# Altium schematic symbol library Troposphere_lib.SchLib: 34 symbols
Pins are listed as number, name and electrical type; pins without a type are passive.

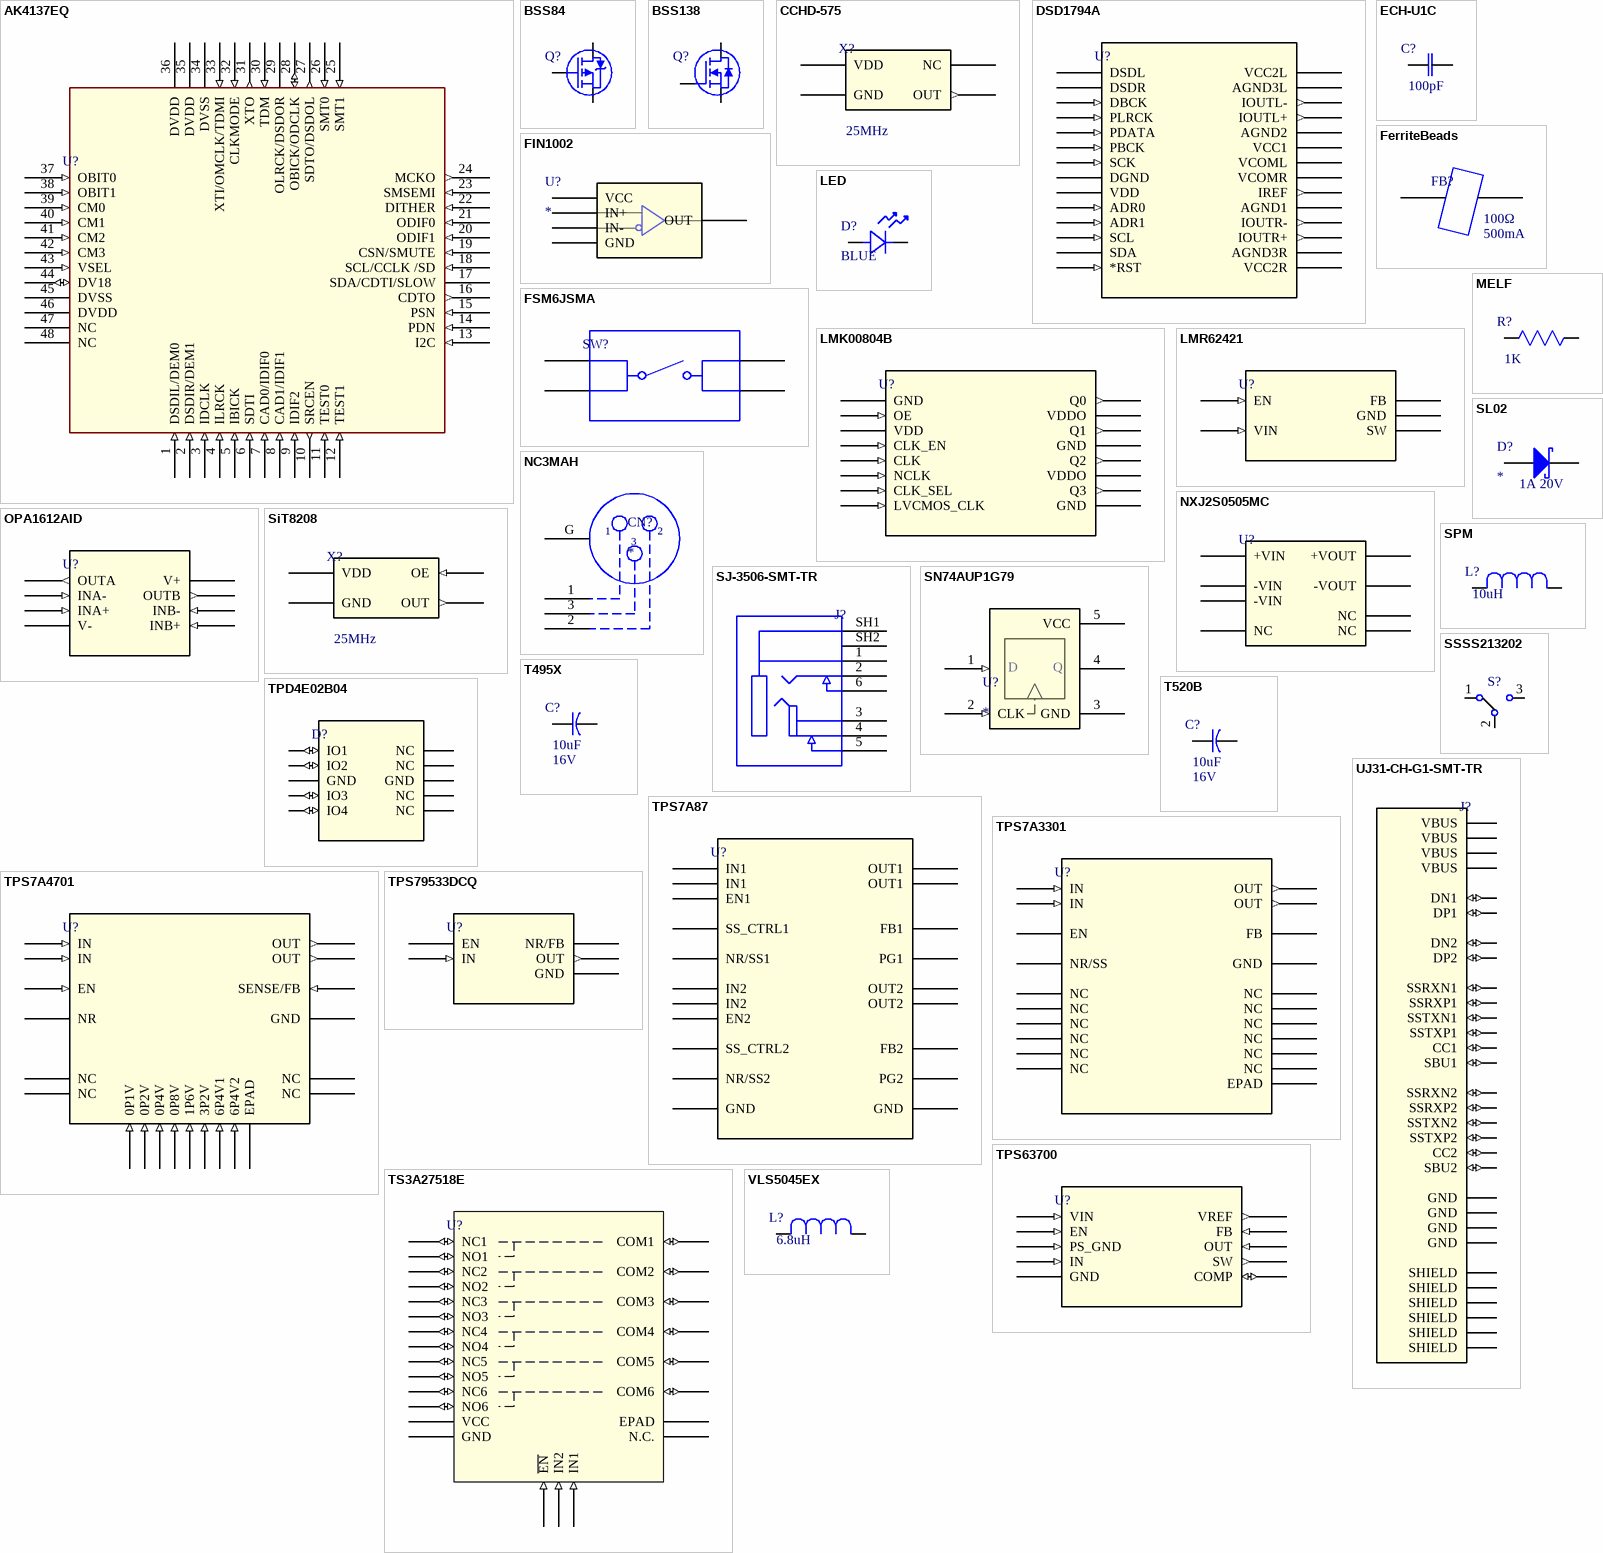
[diagram p0: symbols AK4137EQ to VLS5045EX]

## AK4137EQ
designator U?  (value not drawn)
32bit SRC with PCM/DSD conversion
footprint LQFP48
pins: 1 DSDIL/DEM0 (in), 2 DSDIR/DEM1 (in), 3 IDCLK (in), 4 ILRCK (in), 5 IBICK (in), 6 SDTI (in), 7 CAD0/IDIF0 (in), 8 CAD1/IDIF1 (in), 9 IDIF2 (in), 10 SRCEN (out), 11 TEST0 (in), 12 TEST1 (in), 13 I2C (in), 14 PDN (in), 15 PSN (in), 16 CDTO (out), 17 SDA/CDTI/SLOW, 18 SCL/CCLK /SD (in), 19 CSN/SMUTE (in), 20 ODIF1 (in), 21 ODIF0 (in), 22 DITHER (in), 23 SMSEMI (in), 24 MCKO (out), 25 SMT1 (in), 26 SMT0 (in), 27 SDTO/DSDOL (out), 28 OBICK/ODCLK (io), 29 OLRCK/DSDOR, 30 TDM (in), 31 XTO (out), 32 CLKMODE (in), 33 XTI/OMCLK/TDMI (in), 34 DVSS (power), 35 DVDD (power), 36 DVDD (power), 37 OBIT0 (in), 38 OBIT1 (in), 39 CM0 (in), 40 CM1 (in), 41 CM2 (in), 42 CM3 (in), 43 VSEL (in), 44 DV18 (io), 45 DVSS (power), 46 DVDD (power), 47 NC (power), 48 NC (power)

## BSS84
designator Q?, comment MOSFET  (value not drawn)
MOSFET, P-Channel, Logic Level, 50V, 130mA, SOT23
footprint SOT-23
pins: 1 G, 2 S, 3 D

## BSS138
designator Q?  (value not drawn)
MOSFET, N-Channel, Logic Level, 50V, 220mA, SOT23
footprint SOT-23
pins: 1 G, 2 S, 3 D

## CCHD-575
designator X?  Frequency: 25MHz  (hidden comment: *)
Ultra-Low Phase Noise Oscillator
footprint 7550
pins: 1 NC, 2 GND (power), 3 OUT (out), 4 VDD (power)

## DSD1794A
designator U?  (value not drawn)
24-Bit 192-kHz Sampling Advanced Segment Audio Stereo DAC
footprint DB28
pins: 1 DSDL, 2 DSDR, 3 DBCK (in), 4 PLRCK (in), 5 PDATA (in), 6 PBCK (in), 7 SCK (in), 8 DGND (power), 9 VDD (power), 10 ADR0 (in), 11 ADR1 (in), 12 SCL (in), 13 SDA, 14 *RST (in), 15 VCC2R (power), 16 AGND3R (power), 17 IOUTR+ (out), 18 IOUTR- (out), 19 AGND1 (power), 20 IREF (out), 21 VCOMR (power), 22 VCOML (power), 23 VCC1 (power), 24 AGND2 (power), 25 IOUTL+ (out), 26 IOUTL- (out), 27 AGND3L (power), 28 VCC2L (power)

## ECH-U1C
designator C?  value 100pF  (hidden comment: *)
Metallized Plastic Film Capacitor
footprint C0603
footprint C0805
pins: 1, 2

## FerriteBeads
designator FB?  RatedCurrent: 500mA  Impedance(100MHz): 100Ω  (hidden comment: *)
Chip Ferrite Beads; DCResistance: 1Ω
footprint 0603
footprint 0603-L
footprint 0603-M
footprint 0805
footprint 0805-M
footprint 0805-L
pins: 1 (power), 2 (power)

## FIN1002
designator U?
LVDS 1-Bit High Speed Differential Receiver
footprint DBV5
footprint DBV5-L
footprint DBV5-M
pins: 1 VCC (power), 2 GND (power), 3 IN+ (power), 4 IN- (power), 5 OUT (power)

## FSM6JSMA
designator SW?  (value not drawn)
Switch Push Button N.O. SPST Round Button 0.05A 12VDC 1VA Alternate Contact Gull Wing SMD T/R
footprint SW_6x6
pins: 1, 2, 3, 4

## LED
designator D?, comment BLUE
LED
footprint 0603_LED
pins: 1, 2

## LMK00804B
designator U?  (value not drawn)
Low Skew, 1-to-4 Multiplexed Differential/LVCMOS-to-LVCMOS/TTL Fanout Buffer
footprint PW16
pins: 1 GND (power), 2 OE (in), 3 VDD (power), 4 CLK_EN (in), 5 CLK (in), 6 NCLK (in), 7 CLK_SEL (in), 8 LVCMOS_CLK (in), 9 GND (power), 10 Q3 (out), 11 VDDO (power), 12 Q2 (out), 13 GND (power), 14 Q1 (out), 15 VDDO (power), 16 Q0 (out)

## LMR62421
designator U?  (value not drawn)
LMR62421 SIMPLE SWITCHER® 24Vout, 2.1A Step-Up Voltage Regulator in SOT-23
footprint DBV5
footprint DBV5-L
footprint DBV5-M
pins: 1 SW, 2 GND (power), 3 FB, 4 EN (in), 5 VIN (in)

## MELF
designator R?  value 1K  (hidden comment: *)
Professional High Temperature Thin Film MELF Resistors
footprint 0204
footprint 0204-L
footprint 0204-M
footprint 0207
footprint 0207-L
footprint 0207-M
pins: 1, 2

## NC3MAH
designator CN?
3 pole male XLR receptacle
footprint NC3MAH
pins: 1 (power), 2 (power), 3 (power), G (power)

## NXJ2S0505MC
designator U?  (value not drawn)
Isolated 2W Single Output SM DC-DC Converters
footprint SMD_NXJ2S0505
pins: 1 +VIN (power), 2 -VIN (power), 5 -VOUT (power), 6 +VOUT (power), 7 NC (power), 8 NC (power), 11 -VIN (power), 12 NC (power)

## OPA1612AID
designator U?  (value not drawn)
SoundPlus High-Performance, Bipolar-Input Audio Operational Amplifiers
footprint D8
footprint DRG8
pins: 1 OUTA (out), 2 INA- (in), 3 INA+ (in), 4 V- (power), 5 INB+ (in), 6 INB- (in), 7 OUTB (out), 8 V+ (power)

## SiT8208
designator X?  Frequency: 25MHz  (hidden comment: *)
Ultra Performance Oscillator
footprint 7050
pins: 1 OE (in), 2 GND (power), 3 OUT (out), 4 VDD (power)

## SJ-3506-SMT-TR
designator J?  (value not drawn)
Mid Mount Audio Jack
footprint SJ-3506-SMT-TR
pins: 1 SLEEVE, 2 TIP, 3 RING, 4 ISOLATED_RING, 5 ISOLATED_RING_SWITCH(N-O), 6 TIP_SWITCH, SH1 SHIELDING, SH2 SHIELDING

## SL02
designator D?  value 1A 20V
Schottky Rectifier
footprint DO-219AB
footprint DO-219AB-L
footprint DO-219AB-M
pins: 1, 2

## SN74AUP1G79
designator U?
Low-Power Single Positive-Edge-Triggered D-Type Flip-Flop
footprint DBV5
footprint DBV5-L
footprint DBV5-M
pins: 1 D (in), 2 CLK (in), 3 GND (power), 4 Q (power), 5 VCC (power)

## SPM
designator L?  value 10uH  (hidden comment: *)
Inductors for power circuits, wound metal, SPM series
footprint 4240
footprint 5250
footprint 7165
pins: 1, 2

## SSSS213202
designator S?  (value not drawn)
Slide Switch 3.5(H)mm, 2.0mm-travel Type SSSS2 Series
footprint SS_SMD_213202
pins: 1 (power), 2 COM (power), 3 (power)

## T495X
designator C?  value 10uF  RatedVoltage: 16V  (hidden comment: *)
Tantalum Surface Mount Capacitors – Low ESR
footprint 7343-43
pins: 1, 2

## T520B
designator C?, comment value 10uF  RatedVoltage: 16V  (hidden comment: KO-CAP)
Polymer Electrolytic Capacitors
footprint 3528-21
pins: 1, 2

## TPD4E02B04
designator D?  (value not drawn)
4-Channel ESD Protection Diode for USB Type-C and HDMI 2.0
footprint DQA10
pins: 1 IO1 (io), 2 IO2 (io), 3 GND (power), 4 IO3 (io), 5 IO4 (io), 6 NC, 7 NC, 8 GND (power), 9 NC, 10 NC

## TPS7A87
designator U?  (value not drawn)
Dual, 500-mA, Low-Noise (3.8 μVRMS), LDO Voltage Regulator
footprint RTJ20
pins: 1 IN1 (power), 2 IN1 (power), 3 GND (power), 4 IN2 (power), 5 IN2 (power), 6 EN2 (power), 7 NR/SS2 (power), 8 SS_CTRL2 (power), 9 PG2 (power), 10 FB2 (power), 11 OUT2 (power), 12 OUT2 (power), 13 GND (power), 14 OUT1 (power), 15 OUT1 (power), 16 FB1 (power), 17 PG1 (power), 18 SS_CTRL1 (power), 19 NR/SS1 (power), 20 EN1 (power)

## TPS7A3301
designator U?  (value not drawn)
TPS7A33 –36-V, 1-A, Ultralow-Noise Negative Voltage Regulator
footprint RGW20
pins: 1 OUT (out), 2 NC, 3 FB, 4 NC, 5 NC, 6 NC, 7 GND (power), 8 NC, 9 NC, 10 NC, 11 NC, 12 NC, 13 EN, 14 NR/SS, 15 IN (in), 16 IN (in), 17 NC, 18 NC, 19 NC, 20 OUT (out), 21 EPAD

## TPS7A4701
designator U?  (value not drawn)
TPS7A470x 36-V, 1-A, 4-µVRMS, RF LDO Voltage Regulator
footprint RGW20
pins: 1 OUT (out), 2 NC, 3 SENSE/FB (in), 4 6P4V2 (in), 5 6P4V1 (in), 6 3P2V (in), 7 GND (power), 8 1P6V (in), 9 0P8V (in), 10 0P4V (in), 11 0P2V (in), 12 0P1V (in), 13 EN (in), 14 NR, 15 IN (in), 16 IN (in), 17 NC, 18 NC, 19 NC, 20 OUT (out), 21 EPAD

## TPS63700
designator U?  (value not drawn)
DC-DC Inverter
footprint DRC10
pins: 1 COMP (io), 2 GND (power), 3 VIN (in), 4 EN (in), 5 IN (in), 6 SW (out), 7 PS_GND (in), 8 OUT (in), 9 FB (in), 10 VREF (out)

## TPS79533DCQ
designator U?  (value not drawn)
TPS795 Ultralow-Noise, High-PSRR, Fast, RF, 500-mA Low-Dropout Linear Regulators
footprint DCQ6
pins: 1 EN, 2 IN (in), 3 GND (power), 4 OUT (out), 5 NR/FB

## TS3A27518E
designator U?  (value not drawn)
6-Channel, 1:2 Multiplexer/Demultiplexer
footprint RTW24
pins: 1 COM1 (io), 2 GND (power), 3 COM2 (io), 4 COM3 (io), 5 VCC (power), 6 COM4 (io), 7 COM5 (io), 8 NO1 (io), 9 COM6 (io), 10 NO2 (io), 11 IN2 (in), 12 NO3 (io), 13 NO6 (io), 14 NO4 (io), 15 NO5 (io), 16 NC5 (io), 17 ~{EN} (in), 18 NC4 (io), 19 NC6 (io), 20 NC3 (io), 21 IN1 (in), 22 NC2 (io), 23 NC1 (io), 24 N.C., 25 EPAD

## UJ31-CH-G1-SMT-TR
designator J?  (value not drawn)
USB Type C receptacle
footprint UJ31-CH-G1-SMT-TR
pins: A1 GND (power), A2 SSTXP1 (io), A3 SSTXN1 (io), A4 VBUS (power), A5 CC1 (io), A6 DP1 (io), A7 DN1 (io), A8 SBU1 (io), A9 VBUS (power), A10 SSRXN2 (io), A11 SSRXP2 (io), A12 GND (power), B1 GND (power), B2 SSTXP2 (io), B3 SSTXN2 (io), B4 VBUS (power), B5 CC2 (io), B6 DP2 (io), B7 DN2 (io), B8 SBU2 (io), B9 VBUS (power), B10 SSRXN1 (io), B11 SSRXP1 (io), B12 GND (power), SH1 SHIELD (power), SH2 SHIELD (power), SH3 SHIELD (power), SH4 SHIELD (power), SH5 SHIELD (power), SH6 SHIELD (power)

## VLS5045EX
designator L?  value 6.8uH  (hidden comment: *)
Inductors for power circuits
footprint 5045
pins: 1, 2

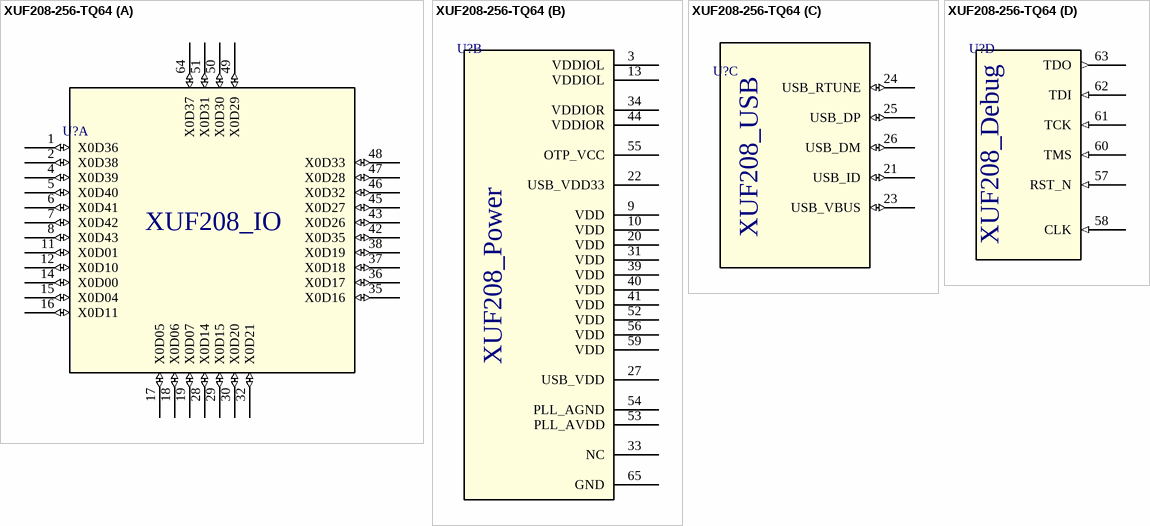
[diagram p1: symbol XUF208-256-TQ64]

## XUF208-256-TQ64
designator U?  (value not drawn)
xCORE Multicore Microcontrollers
footprint TQFP64
part A pins: 1 X0D36 (io), 2 X0D38 (io), 4 X0D39 (io), 5 X0D40 (io), 6 X0D41 (io), 7 X0D42 (io), 8 X0D43 (io), 11 X0D01 (io), 12 X0D10 (io), 14 X0D00 (io), 15 X0D04 (io), 16 X0D11 (io), 17 X0D05 (io), 18 X0D06 (io), 19 X0D07 (io), 28 X0D14 (io), 29 X0D15 (io), 30 X0D20 (io), 32 X0D21 (io), 35 X0D16 (io), 36 X0D17 (io), 37 X0D18 (io), 38 X0D19 (io), 42 X0D35 (io), 43 X0D26 (io), 45 X0D27 (io), 46 X0D32 (io), 47 X0D28 (io), 48 X0D33 (io), 49 X0D29 (io), 50 X0D30 (io), 51 X0D31 (io), 64 X0D37 (io)
part B pins: 3 VDDIOL (power), 9 VDD (power), 10 VDD (power), 13 VDDIOL (power), 20 VDD (power), 22 USB_VDD33 (power), 27 USB_VDD (power), 31 VDD (power), 33 NC, 34 VDDIOR (power), 39 VDD (power), 40 VDD (power), 41 VDD (power), 44 VDDIOR (power), 52 VDD (power), 53 PLL_AVDD (power), 54 PLL_AGND (power), 55 OTP_VCC (power), 56 VDD (power), 59 VDD (power), 65 GND (power)
part C pins: 21 USB_ID (io), 23 USB_VBUS (io), 24 USB_RTUNE (io), 25 USB_DP (io), 26 USB_DM (io)
part D pins: 57 RST_N (in), 58 CLK (in), 60 TMS (in), 61 TCK (in), 62 TDI (in), 63 TDO (out)
part A text: XUF208_IO
part B text: XUF208_Power
part C text: XUF208_USB
part D text: XUF208_Debug